# Altium schematic symbol library CRYSTALS.SchLib: 3 symbols
Pins are listed as number, name and electrical type; pins without a type are passive.

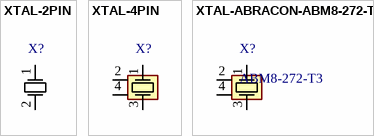
[diagram p0: symbols XTAL-2PIN to XTAL-ABRACON-ABM8-272-T3]

## XTAL-2PIN
designator X?, comment XTAL-2  (value not drawn)
pins: 1 K, 2 A

## XTAL-4PIN
designator X?, comment XTAL-4  (value not drawn)
pins: 1, 2, 3, 4

## XTAL-ABRACON-ABM8-272-T3
designator X?, comment ABM8-272-T3
XTAL,12MHZ,RP2350; Supplier 1: Mouser; Supplier Part Number 1: 815-ABM8-272-T3; LCSC: C20625731
footprint XTAL-ABRACON-ABM8-272-T3 (ABM8-272-T3)
pins: 1, 2, 3, 4